# Altium schematic symbol library IC.SchLib: 77 symbols (part 2 of 3)
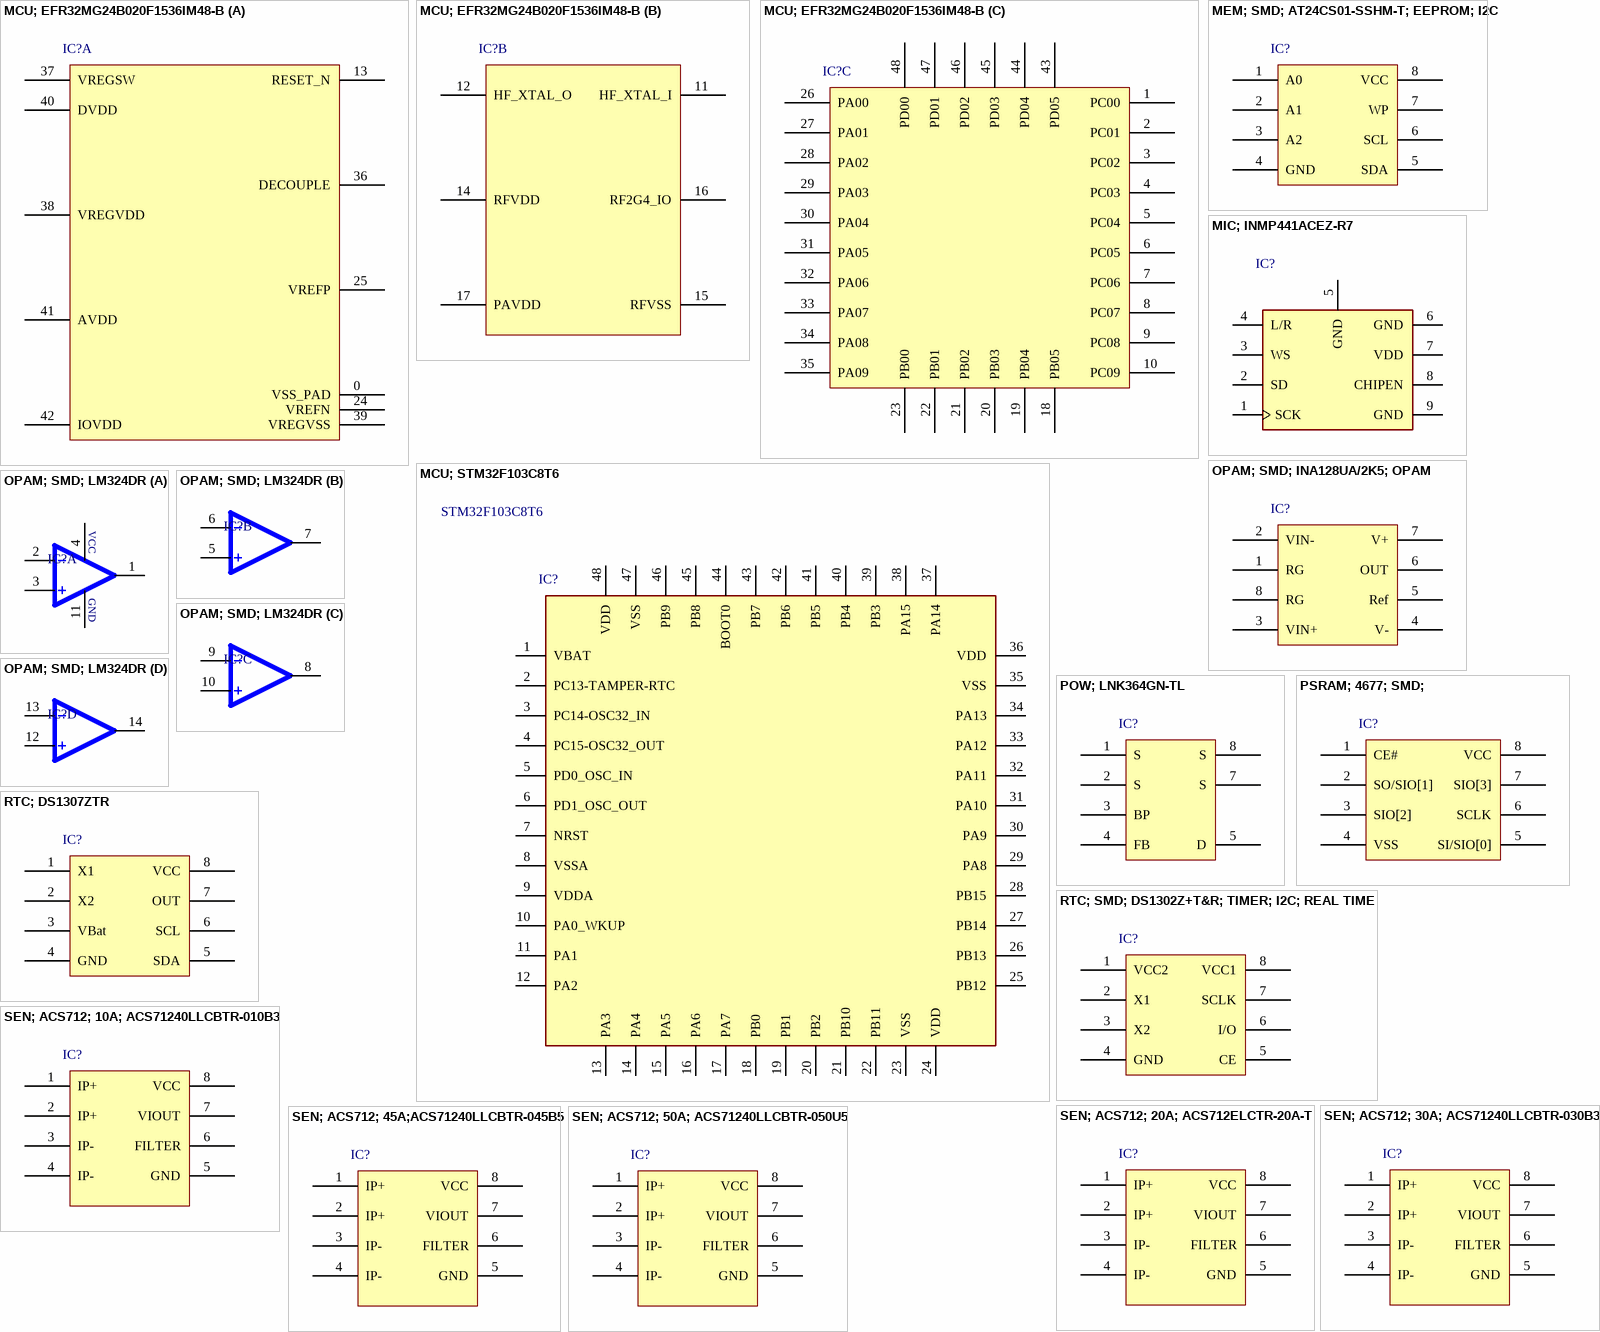
[diagram p5: symbols MCU; EFR32MG24B020F1536IM48-B to SEN; ACS712; 50A; ACS71240LLCBTR-050U5]

## MEM; SMD; AT24CS01-SSHM-T; EEPROM; I2C
designator IC?, comment EEPROM Memory IC 1Kbit I2C 1 MHz 550 ns 8-SOIC  (value not drawn)
EEPROM Serial-I2C 1K-bit 128 x 8 1.8V/2.5V/3.3V/5V 8-Pin SOIC T/R; Manufacturer: Microchip; Manufacturer Part Number: AT24CS01-SSHM-T; Interface: I2C,Serial; Access Time: 550ns; Frequency: 1MHz; Max Supply Voltage: 5.5V; Min Supply Voltage: 1.7V; Memory Format: Non-Volatile,EEPROM; Memory Size: 1Kb; Access Time-Max: 0.6us; Designer: TVBac; Supplier: Digikey; Supplier Part Number: AT24CS01-SSHM-TCT-ND; RoHS: Yes; Stock: 23226; Pricing: 1=0.25, 25=0.2368, 100=0.2266 (USD); Mounting Technology: Surface Mount; Case/Package: SOIC; Pins: 8; Min Operating Temperature: -40°C; Max Operating Temperature: 85°C; Packaging: Cut Tape; Series: -; Length: 5.05mm; Width: 3.99mm; Height: 1.5mm; RoHS Compliant: Yes; ComponentLink1URL: http://uk.rs-online.com/webdocs/1300/0900766b813005b9.pdf?src-supplier=Rs; ComponentLink1Description: http://uk.rs-online.com/webdocs/1300/0900766b813005b9.pdf?src-supplier=Rs; ComponentLink2URL: https://datasheet.octopart.com/AT24CS01-SSHM-T-Microchip-datasheet-76771459.pdf?src-supplier=Farnell; ComponentLink2Description: https://datasheet.octopart.com/AT24CS01-SSHM-T-Microchip-datasheet-76771459.pdf?src-supplier=Farnell; ComponentLink3URL: https://datasheet.octopart.com/AT24CS01-SSHM-T-Microchip-datasheet-62039783.pdf?src-supplier=Future+Electronics; ComponentLink3Description: https://datasheet.octopart.com/AT24CS01-SSHM-T-Microchip-datasheet-62039783.pdf?src-supplier=Future+Electronics; ComponentLink4URL: https://datasheet.octopart.com/AT24CS01-SSHM-T-Microchip-datasheet-141907842.pdf?src-supplier=Newark; ComponentLink4Description: https://datasheet.octopart.com/AT24CS01-SSHM-T-Microchip-datasheet-141907842.pdf?src-supplier=Newark; ComponentLink5URL: https://datasheet.octopart.com/AT24CS01-SSHM-T-Microchip-datasheet-17898956.pdf?src-supplier=SHENGYU+ELECTRONICS; ComponentLink5Description: https://datasheet.octopart.com/AT24CS01-SSHM-T-Microchip-datasheet-17898956.pdf?src-supplier=SHENGYU+ELECTRONICS; ComponentLink6URL: https://datasheet.octopart.com/AT24CS01-SSHM-T-Microchip-datasheet-141907842.pdf?src-supplier=microchipDIRECT; ComponentLink6Description: https://datasheet.octopart.com/AT24CS01-SSHM-T-Microchip-datasheet-141907842.pdf?src-supplier=microchipDIRECT; ComponentLink7Description: Link Digikey; ComponentLink7URL: https://www.digikey.kr/en/products/detail/microchip-technology/AT24CS01-SSHM-T/3466374
footprint SOIC-8
pins: 1 A0, 2 A1, 3 A2, 4 GND, 5 SDA, 6 SCL, 7 WP, 8 VCC

## MIC; INMP441ACEZ-R7
designator IC?, comment 60 Hz ~ 15 kHz Digital, I2S Microphone MEMS (Silicon) 1.62 V ~ 3.63 V Omnidirectional (-26dB ±3dB @ 94dB SPL) Solder Pads  (value not drawn)
60Hz ~ 15kHz Digital, IÂ²S Microphone MEMS (Silicon) 1.62V ~ 3.63V Omnidirectional (-26dB Â±3dB @ 94dB SPL) Solder Pads; MP: INMP441ACEZ-R7; MF: TDK InvenSense; Designer: TVBac; Package: QFN-24 InvenSense; SnapEDA_Link: https://www.snapeda.com/parts/INMP441ACEZ-R7/TDK%20InvenSense/view-part/76082/?ref=snap; Availability: Bad; Price: None; Value: *
footprint MIC-SMD-HxLxW-1.05x4.72x3.76-TDKIS-SNAP
pins: 1 SCK, 2 SD, 3 WS, 4 L/R, 5 GND, 6 GND, 7 VDD, 8 CHIPEN, 9 GND

## OPAM; SMD; INA128UA/2K5; OPAM
designator IC?, comment Instrumentation Amplifier 1 Circuit 8-SOIC  (value not drawn)
Instrumentation Amplifier 1 Circuit  8-SOIC; Manufacturer: Texas Instruments; Manufacturer Part Number: INA128UA/2K5; Slew Rate: 4V/µs; Min Dual Supply Voltage: 2.25V; Max Dual Supply Voltage: 18V; Dual Supply Voltage: 15V; Common Mode Rejection Ratio: 110dB; Number of Channels: 1; Max Supply Voltage: 36V; Min Supply Voltage: 4.5V; Gain Bandwidth Product: 1.3MHz; Input Offset Voltage (Vos): 125uV; Input Bias Current: 10nA; Input Voltage Noise Density: 8nV/sqrt Hz; Number of Elements: 3; Voltage Gain: 80dB; Input Resistance: 100GR; Quiescent Current: 700uA; Supply Current: 750uA; Value: 100GR; Designer: TVBac; Supplier: Digikey; Supplier Part Number: 296-26057-1-ND; RoHS: Yes; Category: Amplifiers - Op Amps, Buffer, Instrumentation; Stock: 4493; Pricing: 1=9.07, 10=6.804, 25=6.2376, 100=5.6154, 250=5.3186, 500=5.1396, 1000=4.9923 (USD); Case/Package: D; Pins: 8; Weight: 0.002677oz; Min Operating Temperature: -40°C; Max Operating Temperature: 125°C; Packaging: Tape and Reel; Package Quantity: 2500; Number of Circuits: 1; Number of Amplifiers: 3; Bandwidth: 1.3MHz; Series: INA128; Length: 4.9mm; Width: 3.91mm; Height: 1.75mm; Thickness: 1.58mm; Reach SVHC Compliant: No; Lead Free: Lead Free; RoHS Compliant: Yes; ComponentLink1URL: https://datasheet.ciiva.com/1816/ina128-1816756.pdf?src-supplier=Digikey; ComponentLink1Description: https://datasheet.ciiva.com/1816/ina128-1816756.pdf?src-supplier=Digikey; ComponentLink2URL: https://datasheet.ciiva.com/1816/ina128-1816757.pdf?src-supplier=Digikey; ComponentLink2Description: https://datasheet.ciiva.com/1816/ina128-1816757.pdf?src-supplier=Digikey; ComponentLink3URL: https://datasheet.ciiva.com/1816/ina128-1816758.pdf?src-supplier=Digikey; ComponentLink3Description: https://datasheet.ciiva.com/1816/ina128-1816758.pdf?src-supplier=Digikey; ComponentLink4URL: https://datasheet.ciiva.com/2977/ina129-2977787.pdf?src-supplier=Avnet; ComponentLink4Description: https://datasheet.ciiva.com/2977/ina129-2977787.pdf?src-supplier=Avnet; ComponentLink5Description: Link Digikey; ComponentLink5URL: https://www.digikey.kr/en/products/detail/texas-instruments/INA128UA-2K5/300998
footprint SOIC-8
pins: 1 RG, 2 VIN-, 3 VIN+, 4 V-, 5 Ref, 6 OUT, 7 V+, 8 RG

## OPAM; SMD; LM324DR
designator IC?, comment General Purpose Amplifier 4 Circuit 14-SOIC  (value not drawn)
Quad 30-V 1.2-MHz operational amplifier 14-SOIC 0 to 70; Manufacturer: Texas Instruments; Manufacturer Part Number: LM324DR; Common Mode Rejection Ratio: 65dB; Number of Channels: 4; Output Current: 30mA; Max Supply Voltage: 32V; Min Supply Voltage: 3V; Slew Rate: 0.5V/µs; Min Dual Supply Voltage: 1.5V; Max Dual Supply Voltage: 16V; Voltage Gain: 100dB; Unity Gain Bandwidth Product: 1.2MHz; Input Offset Voltage (Vos): 7mV; Input Bias Current: 250nA; Operating Supply Current: 1.4mA; Output Current per Channel: 40mA; Supply Current: 3mA; Designer: TVBac; Supplier: Digikey; Supplier Part Number: 296-14597-1-ND; RoHS: Yes; Category: Amplifiers - Op Amps, Buffer, Instrumentation; Stock: 58799; Pricing: 1=0.23, 10=0.152, 25=0.132, 100=0.1105, 250=0.10008, 500=0.09382, 1000=0.08867, 2500=0.08322, 5000=0.07994, 7500=0.0783, 12500=0.07647, 17500=0.07541, 25000=0.07438, 62500=0.07218, 125000=0.07085 (USD); Mounting Technology: Surface Mount; Case/Package: SOIC; Pins: 14; Min Operating Temperature: 0°C; Max Operating Temperature: 70°C; Package Quantity: 2500; Packaging: Tape and Reel; Bandwidth: 1.2MHz; Operating Supply Voltage: 16V; Gain Bandwidth Product: 1.2MHz; Number of Circuits: 4; Number of Amplifiers: 4; Number of Elements: 4; Series: -; Amplifier Type: GENERAL PURPOSE; Technology: BIPOLAR; Thickness: 1.58mm; Radiation Hardening: No; Reach SVHC Compliant: No; Lead Free: Lead Free; RoHS Compliant: Yes; ComponentLink1URL: https://datasheet.ciiva.com/34301/902590-34301708.pdf?src-supplier=Jameco; ComponentLink1Description: https://datasheet.ciiva.com/34301/902590-34301708.pdf?src-supplier=Jameco; ComponentLink2URL: https://datasheet.ciiva.com/1795/lm224-1795532.pdf?src-supplier=Digikey; ComponentLink2Description: https://datasheet.ciiva.com/1795/lm224-1795532.pdf?src-supplier=Digikey; ComponentLink3URL: https://datasheet.ciiva.com/1795/lm224-1795533.pdf?src-supplier=Digikey; ComponentLink3Description: https://datasheet.ciiva.com/1795/lm224-1795533.pdf?src-supplier=Digikey; ComponentLink4URL: https://datasheet.ciiva.com/1795/lm224-1795534.pdf?src-supplier=Digikey; ComponentLink4Description: https://datasheet.ciiva.com/1795/lm224-1795534.pdf?src-supplier=Digikey; ComponentLink5URL: https://datasheet.ciiva.com/5997/1768103-5997421.pdf?src-supplier=Farnell; ComponentLink5Description: https://datasheet.ciiva.com/5997/1768103-5997421.pdf?src-supplier=Farnell; ComponentLink6URL: https://datasheet.ciiva.com/2973/lm324ka-2973348.pdf?src-supplier=Avnet; ComponentLink6Description: https://datasheet.ciiva.com/2973/lm324ka-2973348.pdf?src-supplier=Avnet; ComponentLink7URL: https://datasheet.ciiva.com/7709/1840878-7709814.pdf?src-supplier=Element14; ComponentLink7Description: https://datasheet.ciiva.com/7709/1840878-7709814.pdf?src-supplier=Element14; ComponentLink8URL: https://datasheet.ciiva.com/46385/1877076-46385751.pdf?src-supplier=Element14; ComponentLink8Description: https://datasheet.ciiva.com/46385/1877076-46385751.pdf?src-supplier=Element14; ComponentLink9Description: Link Digikey; ComponentLink9URL: https://www.digikey.kr/en/products/detail/texas-instruments/LM324DR/555719
footprint SOIC-14
part A pins: 1 1OUT, 2 1IN-, 3 1IN+, 4 VCC (power), 11 GND (power)
part B pins: 5 2IN+, 6 2IN-, 7 2OUT
part C pins: 8 3OUT, 9 3IN-, 10 3IN+
part D pins: 12 4IN+, 13 4IN-, 14 4OUT

## POW; LNK364GN-TL
designator IC?, comment Converter Offline Flyback Topology 132kHz SMD-8B  (value not drawn)
AC to DC Switching Converter Off-Line Switcher 140kHz 7-Pin SMD-B / IC OFFLINE SWIT HV 8SMD; Manufacturer: Power Integrations; Manufacturer Part Number: LNK364GN-TL; Designer: TVBac; Supplier: Digikey; Supplier Part Number: 596-1089-1-ND; RoHS: Yes; Category: Voltage Regulators - Switching; Stock: 726; Pricing: 1=0.87, 100=0.7168 (USD); ComponentLink1URL: https://datasheet.ciiva.com/1930/lnk362-364-1930587.pdf?src-supplier=Digikey; ComponentLink1Description: https://datasheet.ciiva.com/1930/lnk362-364-1930587.pdf?src-supplier=Digikey; ComponentLink2URL: https://datasheet.ciiva.com/1930/lnk362-364-1930588.pdf?src-supplier=Digikey; ComponentLink2Description: https://datasheet.ciiva.com/1930/lnk362-364-1930588.pdf?src-supplier=Digikey; ComponentLink3URL: https://datasheet.ciiva.com/1930/lnk362-364-1930589.pdf?src-supplier=Digikey; ComponentLink3Description: https://datasheet.ciiva.com/1930/lnk362-364-1930589.pdf?src-supplier=Digikey; ComponentLink4URL: https://datasheet.ciiva.com/12230/lnk362-364-3310-12230262.pdf?src-supplier=Mouser; ComponentLink4Description: https://datasheet.ciiva.com/12230/lnk362-364-3310-12230262.pdf?src-supplier=Mouser; ComponentLink5Description: Link Digikey; ComponentLink5URL: https://www.digikey.com/en/products/detail/power-integrations/LNK364GN-TL/1007182
footprint SMD-8B-PI
pins: 1 S, 2 S, 3 BP, 4 FB, 5 D, 7 S, 8 S

## PSRAM; 4677; SMD;
designator IC?, comment IC PSRAM 64MBIT SPI 133MHZ 8SOIC  (value not drawn)
Generic 64 Mbit Serial Pseudo SRAM - 3.3V 133 MHz; Manufacturer: Adafruit Industries; Manufacturer Part Number: 4677; Designer: TVBac; Supplier: Digikey; Supplier Part Number: 1528-4677-ND; RoHS: No; Category: Memory; Stock: 431; Pricing: 1=1.8 (USD); ComponentLink1Description: Link Datasheet; ComponentLink1URL: https://cdn-shop.adafruit.com/product-files/4677/4677_esp-psram64_esp-psram64h_datasheet_en.pdf; ComponentLink2Description: Link Digikey; ComponentLink2URL: https://www.digikey.kr/en/products/detail/adafruit-industries-llc/4677/13148775?s=N4IgTCBcDaIKIGUAKBaJCBKBBAsgNgBYQBdAXyA
footprint SOP-8
pins: 1 CE#, 2 SO/SIO[1] , 3 SIO[2], 4 VSS, 5 SI/SIO[0], 6 SCLK, 7 SIO[3], 8 VCC

## RTC; DS1307ZTR
designator IC?, comment Real Time Clock (RTC) IC Clock/Calendar 56B I2C, 2-Wire Serial 8-SOIC (0.154", 3.90mm Width)  (value not drawn)
Real Time Clock 64x8 Serial I2C RTC; Manufacturer: Maxim; Manufacturer Part Number: DS1307ZTR; Designer: TVBac; Supplier: Newark; Supplier Part Number: 38AC0917; RoHS: Yes; Stock: 1830; Pricing: 1=6.14, 10=4.05, 25=3.5, 50=3.2, 100=2.89, 250=2.58, 500=2.4, 1000=2.36 (USD); ComponentLink1URL: https://datasheet.ciiva.com/22828/0900766b810e2680-22828066.pdf?src-supplier=Rs; ComponentLink1Description: https://datasheet.ciiva.com/22828/0900766b810e2680-22828066.pdf?src-supplier=Rs; ComponentLink2URL: https://datasheet.ciiva.com/3304/ds1307-3304458.pdf?src-supplier=Avnet; ComponentLink2Description: https://datasheet.ciiva.com/3304/ds1307-3304458.pdf?src-supplier=Avnet; ComponentLink3URL: https://datasheet.ciiva.com/17307/ds1307-17307070.pdf?; ComponentLink3Description: https://datasheet.ciiva.com/17307/ds1307-17307070.pdf?
footprint SOIC-8
pins: 1 X1, 2 X2, 3 VBat, 4 GND, 5 SDA, 6 SCL, 7 OUT, 8 VCC

## RTC; SMD; DS1302Z+T&R; TIMER; I2C; REAL TIME
designator IC?, comment Real Time Clock (RTC) IC Clock/Calendar 31B 3-Wire Serial 8-SOIC (0.154", 3.90mm Width)  (value not drawn)
RTC IC, Date Time Format (Day/Date/Month/Year hh: mm: ss), Serial, 2 V to 5.5 V, NSOIC-8; Manufacturer: Maxim; Manufacturer Part Number: DS1302Z+T&R; Time Format: HH:MM:SS (12/24 hr); Interface: Serial,3-WIRE; Min Supply Voltage: 2V; Max Supply Voltage: 5.5V; Date Format: YY-MM-DD-dd; Designer: TVBac; Supplier: Digikey; Supplier Part Number: DS1302Z+CT-ND; RoHS: Yes; Category: Real Time Clocks; Stock: 14010; Pricing: 1=6.44, 10=4.356, 25=3.8168, 100=3.2123, 250=2.919, 500=2.74026, 1000=2.59184 (USD); Mounting Technology: Surface Mount; Case/Package: SOIC; Pins: 8; Min Operating Temperature: 0°C; Max Operating Temperature: 70°C; Packaging: Cut Tape; Series: -; Memory Size: 31B; RoHS Compliant: Yes; ComponentLink1URL: http://www.farnell.com/datasheets/1904443.pdf?src-supplier=Farnell; ComponentLink1Description: http://www.farnell.com/datasheets/1904443.pdf?src-supplier=Farnell; ComponentLink2URL: https://datasheets.maximintegrated.com/en/ds/DS1302.pdf?src-supplier=Digikey; ComponentLink2Description: https://datasheets.maximintegrated.com/en/ds/DS1302.pdf?src-supplier=Digikey; ComponentLink3URL: https://datasheet.octopart.com/DS1302Z%2BT%26R-Analog-Devices-datasheet-39124292.pdf?src-supplier=LKR; ComponentLink3Description: https://datasheet.octopart.com/DS1302Z%2BT%26R-Analog-Devices-datasheet-39124292.pdf?src-supplier=LKR; ComponentLink4Description: Link Digikey; ComponentLink4URL: https://digikey.kr/en/products/detail/analog-devices-inc-maxim-integrated/DS1302Z-T-R/1017846
footprint SOIC-8
pins: 1 VCC2, 2 X1, 3 X2, 4 GND, 5 CE, 6 I/O, 7 SCLK, 8 VCC1

## SEN; ACS712; 10A; ACS71240LLCBTR-010B3
designator IC?, comment Current Sensor 10A 1 Channel Hall Effect, Open Loop Bidirectional 8-SOIC (0.154", 3.90mm Width)  (value not drawn)
Automotive-Grade, Current Sensor IC with CM field rejection and Overcurrent Detection in SOIC8 and 2400VRMS...; Manufacturer: Allegro MicroSystems; Manufacturer Part Number: ACS71240LLCBTR-010B3; Designer: TVBac; Supplier: Digikey; Supplier Part Number: 620-2051-1-ND; RoHS: Yes; Category: Current Sensors; Stock: 7503; Pricing: 1=3.52, 5=2.968, 10=2.758, 25=2.5032, 50=2.326, 100=2.1615, 500=1.82332, 1000=1.6946, 3000=1.50905, 6000=1.40625 (USD); ComponentLink1Description: Link Digikey; ComponentLink1URL: https://www.digikey.com/en/products/detail/allegro-microsystems/ACS71240LLCBTR-010B3/10146663
footprint SOIC-8
pins: 1 IP+, 2 IP+, 3 IP-, 4 IP-, 5 GND, 6 FILTER, 7 VIOUT, 8 VCC

## SEN; ACS712; 20A; ACS712ELCTR-20A-T
designator IC?, comment Current Sensor 20A 1 Channel Hall Effect, Open Loop Bidirectional 8-SOIC (0.154", 3.90mm Width)  (value not drawn)
Allegro ACS712ELCTR-20A-T / Sensor Current 20A 5V Bi 8-SOICALLE; Manufacturer: Allegro MicroSystems; Sensing Method: 6244SensingMethod; Operating Supply Current: 10mA; Designer: TVBac; Supplier: Digikey; Supplier Part Number: 620-1190-1-ND; Manufacturer Part Number: ACS712ELCTR-20A-T; RoHS: Yes; Category: Current Sensors; Stock: 27093; Pricing: 1=3.79, 5=3.194, 10=2.968, 25=2.6936, 50=2.5032, 100=2.3262, 500=1.96228, 1000=1.82376, 3000=1.62409, 6000=1.5625 (USD); Lead Free: 5697LeadFree; ComponentLink1URL: https://datasheet.ciiva.com/15099/getdatasheetpartid-312820-15099471.pdf?src-supplier=Verical; ComponentLink1Description: https://datasheet.ciiva.com/15099/getdatasheetpartid-312820-15099471.pdf?src-supplier=Verical; ComponentLink2URL: https://datasheet.ciiva.com/1165/64754-1165093.pdf?src-supplier=Element14; ComponentLink2Description: https://datasheet.ciiva.com/1165/64754-1165093.pdf?src-supplier=Element14; ComponentLink3URL: https://datasheet.ciiva.com/3271/acs712-datasheet-3271995.pdf?src-supplier=Avnet; ComponentLink3Description: https://datasheet.ciiva.com/3271/acs712-datasheet-3271995.pdf?src-supplier=Avnet; ComponentLink4URL: https://datasheet.ciiva.com/3272/acs712-datasheet-3272423.pdf?src-supplier=Avnet; ComponentLink4Description: https://datasheet.ciiva.com/3272/acs712-datasheet-3272423.pdf?src-supplier=Avnet; ComponentLink5URL: https://datasheet.ciiva.com/16636/acs712-datasheet-16636599.pdf?; ComponentLink5Description: https://datasheet.ciiva.com/16636/acs712-datasheet-16636599.pdf?; ComponentLink6Description: Link Digikey; ComponentLink6URL: https://www.digikey.com/en/products/detail/allegro-microsystems/ACS712ELCTR-20A-T/1284594
footprint SOIC-8
pins: 1 IP+, 2 IP+, 3 IP-, 4 IP-, 5 GND, 6 FILTER, 7 VIOUT, 8 VCC

## SEN; ACS712; 30A; ACS71240LLCBTR-030B3
designator IC?, comment Current Sensor 30A 1 Channel Hall Effect, Open Loop Bidirectional 8-SOIC (0.154", 3.90mm Width)  (value not drawn)
Automotive-Grade, Current Sensor IC with CM field rejection and Overcurrent Detection in SOIC8 and 2400VRMS...; Manufacturer: Allegro MicroSystems; Manufacturer Part Number: ACS71240LLCBTR-030B3; Designer: TVBac; Supplier: Digikey; Supplier Part Number: 620-2052-1-ND; RoHS: Yes; Category: Current Sensors; Stock: 5721; Pricing: 1=3.52, 5=2.968, 10=2.758, 25=2.5032, 50=2.326, 100=2.1615, 500=1.82332, 1000=1.6946, 3000=1.50905, 6000=1.40625 (USD); ComponentLink1Description: Link Digikey; ComponentLink1URL: https://www.digikey.com/en/products/detail/allegro-microsystems/ACS71240LLCBTR-030B3/10146664
footprint SOIC-8
pins: 1 IP+, 2 IP+, 3 IP-, 4 IP-, 5 GND, 6 FILTER, 7 VIOUT, 8 VCC

## SEN; ACS712; 45A;ACS71240LLCBTR-045B5
designator IC?, comment Current Sensor 45A 1 Channel Hall Effect, Open Loop Bidirectional 8-SOIC (0.154", 3.90mm Width)  (value not drawn)
Automotive-Grade, Current Sensor IC with CM field rejection and Overcurrent Detection in SOIC8 and 2400VRMS...; Manufacturer: Allegro MicroSystems; Manufacturer Part Number: ACS71240LLCBTR-045B5; Designer: TVBac; Supplier: Digikey; Supplier Part Number: 620-2053-1-ND; RoHS: Yes; Category: Current Sensors; Stock: 930; Pricing: 1=3.52, 5=2.968, 10=2.758, 25=2.5032, 50=2.326, 100=2.1615, 500=1.82332, 1000=1.6946, 3000=1.50905, 6000=1.40625 (USD); ComponentLink1Description: Link Digikey; ComponentLink1URL: https://www.digikey.com/en/products/detail/allegro-microsystems/ACS71240LLCBTR-045B5/10146665
footprint SOIC-8
pins: 1 IP+, 2 IP+, 3 IP-, 4 IP-, 5 GND, 6 FILTER, 7 VIOUT, 8 VCC

## SEN; ACS712; 50A; ACS71240LLCBTR-050U5
designator IC?, comment Current Sensor 50A 1 Channel Hall Effect, Open Loop Unidirectional 8-SOIC (0.154", 3.90mm Width)  (value not drawn)
Current Sensor 50A 120kHz 8-Pin SOIC T/R; Manufacturer: Allegro MicroSystems; Manufacturer Part Number: ACS71240LLCBTR-050U5; Designer: TVBac; Supplier: Digikey; Supplier Part Number: 620-2054-1-ND; RoHS: Yes; Category: Current Sensors; Stock: 4103; Pricing: 1=4.19, 5=3.536, 10=3.285, 25=2.9808, 50=2.77, 100=2.5741, 500=2.1715, 1000=2.01822, 3000=1.79726 (USD)
footprint SOIC-8
pins: 1 IP+, 2 IP+, 3 IP-, 4 IP-, 5 GND, 6 FILTER, 7 VIOUT, 8 VCC

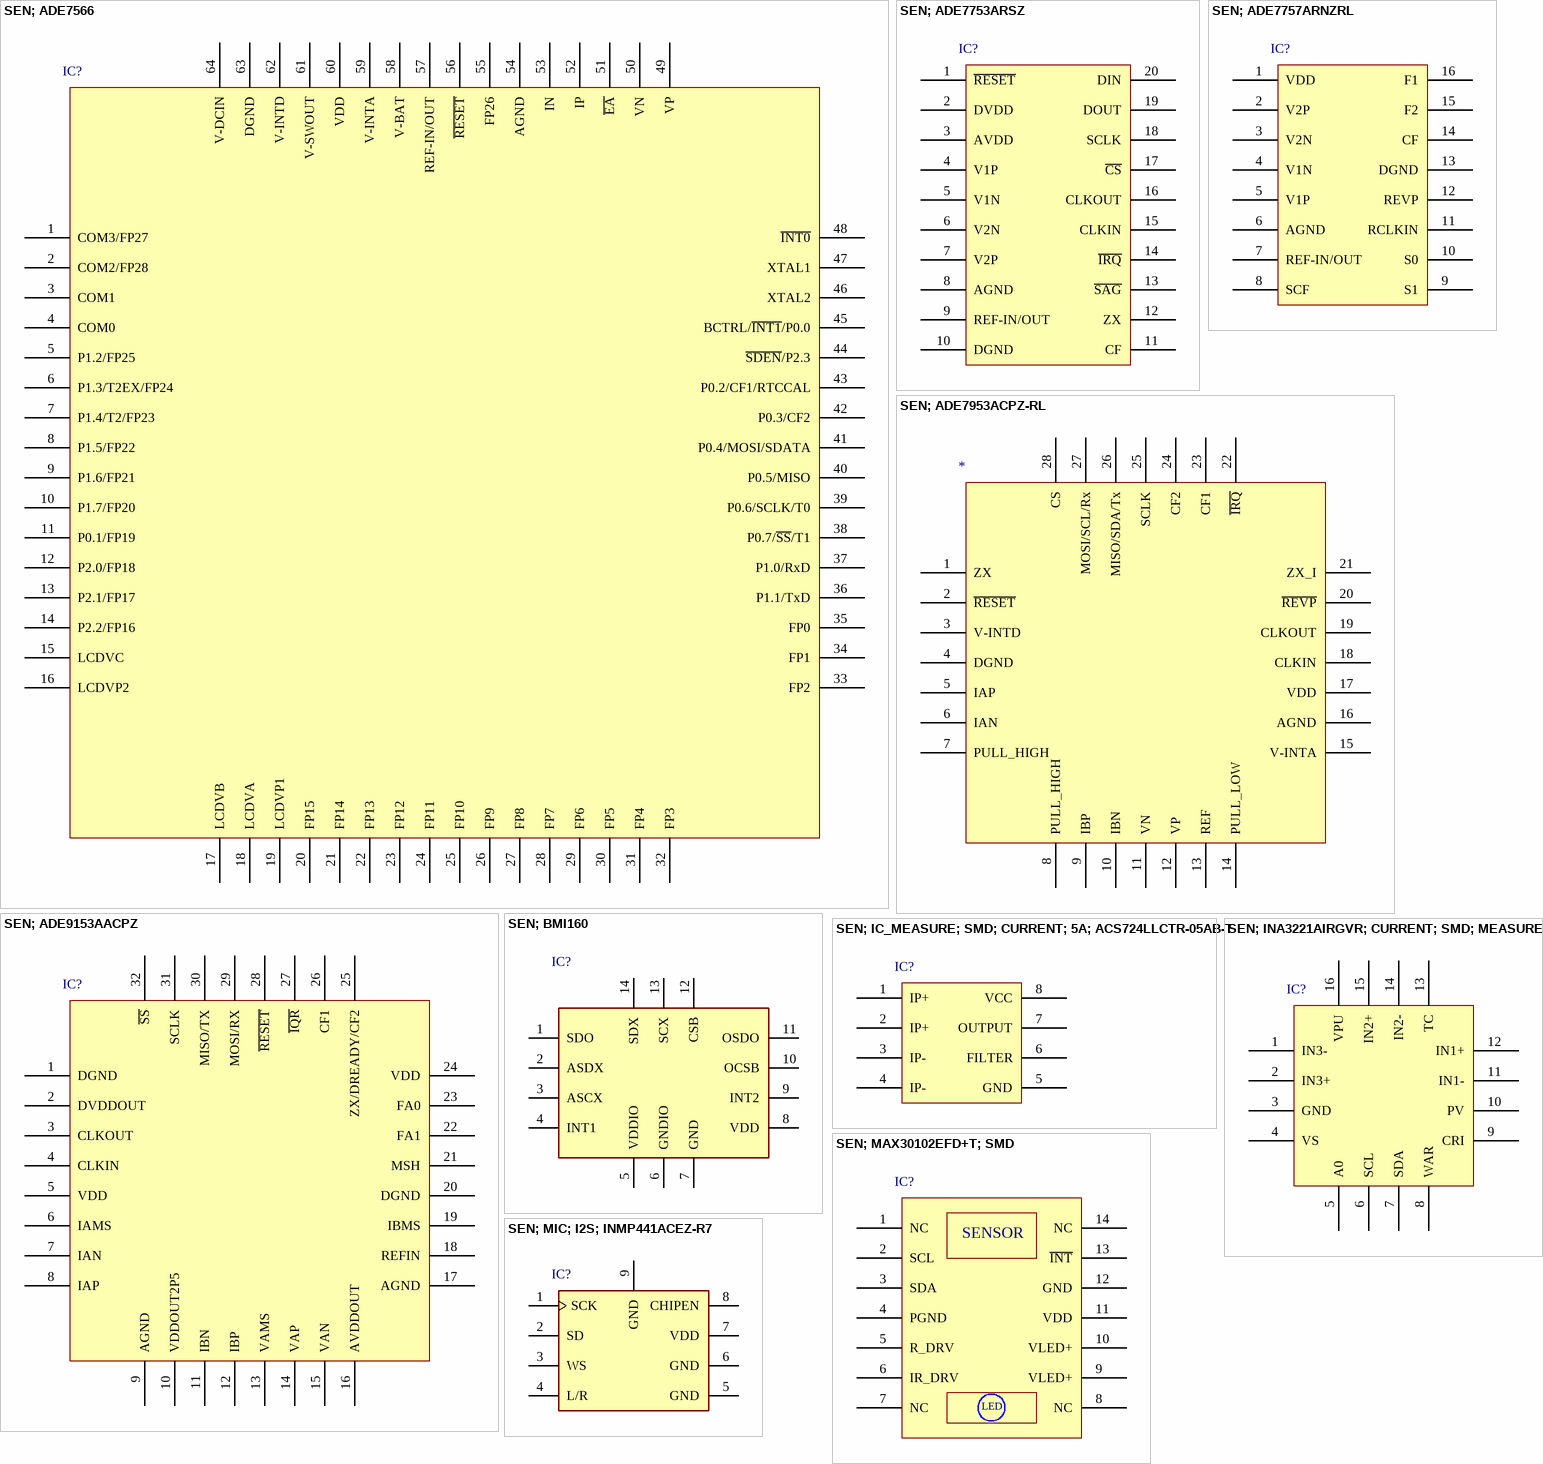
[diagram p3: symbols SEN; ADE7566 to SEN; MIC; I2S; INMP441ACEZ-R7]

## SEN; ADE7566
designator IC?, comment Single Phase Meter IC 64-LQFP (10x10)  (value not drawn)
Single-Phase Energy Measurement IC with 8052 MCU, RTC, and LCD Driver; Symbol: ADE7566ASTZF16-RL; Designer: TVBac; Device: ADE7566ASTZF16-RL; LCSC Part Name: ADE7566ASTZF16-RL; Supplier Part: C3681686; Manufacturer Part: ADE7566ASTZF16-RL; JLCPCB Part Class: Extended Part; Datasheet: https://atta.szlcsc.com/upload/public/pdf/source/20231009/C191B7318F689645FB1E4379B5E0C61A.pdf; ComponentLink1Description: Link Digikey; ComponentLink1URL: https://www.digikey.com/en/products/detail/analog-devices-inc/ADE7566ASTZF8/1762659
footprint LQFP-64 (10x10)
pins: 1 COM3/FP27, 2 COM2/FP28, 3 COM1, 4 COM0, 5 P1.2/FP25, 6 P1.3/T2EX/FP24, 7 P1.4/T2/FP23, 8 P1.5/FP22, 9 P1.6/FP21, 10 P1.7/FP20, 11 P0.1/FP19, 12 P2.0/FP18, 13 P2.1/FP17, 14 P2.2/FP16 , 15 LCDVC, 16 LCDVP2, 17 LCDVB , 18 LCDVA, 19 LCDVP1, 20 FP15, 21 FP14, 22 FP13, 23 FP12, 24 FP11, 25 FP10, 26 FP9, 27 FP8, 28 FP7, 29 FP6, 30 FP5, 31 FP4, 32 FP3, 33 FP2, 34 FP1, 35 FP0, 36 P1.1/TxD, 37 P1.0/RxD, 38 P0.7/~{SS}/T1, 39 P0.6/SCLK/T0, 40 P0.5/MISO, 41 P0.4/MOSI/SDATA, 42 P0.3/CF2, 43 P0.2/CF1/RTCCAL, 44 ~{SDEN}/P2.3, 45 BCTRL/~{INT1}/P0.0, 46 XTAL2, 47 XTAL1, 48 ~{INT0}, 49 VP, 50 VN, 51 ~{EA}, 52 IP, 53 IN, 54 AGND, 55 FP26, 56 ~{RESET}, 57 REF-IN/OUT, 58 V-BAT, 59 V-INTA, 60 VDD, 61 V-SWOUT, 62 V-INTD, 63 DGND, 64 V-DCIN

## SEN; ADE7753ARSZ
designator IC?, comment Single Phase Meter IC 20-SSOP  (value not drawn)
Single Phase Multifunction Metering IC 20-Pin SSOP Tube; Manufacturer: Analog Devices; Manufacturer Part Number: ADE7753ARSZ; Designer: TVBac; Supplier: Mouser; Supplier Part Number: 584-ADE7753ARSZ; RoHS: Yes; Category: Analog to Digital Converters (ADCs); Stock: 239; Pricing: 1=7.3, 10=5.71, 50=5.04, 100=3.91, 1000=3.51, 10000=3.37 (USD); ComponentLink1URL: https://datasheet.ciiva.com/15373/ade7753-249340-15373717.pdf?src-supplier=Mouser; ComponentLink1Description: https://datasheet.ciiva.com/15373/ade7753-249340-15373717.pdf?src-supplier=Mouser; ComponentLink2URL: https://datasheet.ciiva.com/1166/1610806-1166771.pdf?src-supplier=Element14; ComponentLink2Description: https://datasheet.ciiva.com/1166/1610806-1166771.pdf?src-supplier=Element14; ComponentLink3URL: https://datasheet.ciiva.com/15134/getdatasheetpartid-132040-15134272.pdf?src-supplier=Verical; ComponentLink3Description: https://datasheet.ciiva.com/15134/getdatasheetpartid-132040-15134272.pdf?src-supplier=Verical; ComponentLink4URL: https://datasheet.ciiva.com/1941/ade7753-1941429.pdf?src-supplier=Digikey; ComponentLink4Description: https://datasheet.ciiva.com/1941/ade7753-1941429.pdf?src-supplier=Digikey; ComponentLink5URL: https://datasheet.ciiva.com/22621/1610806-22621637.pdf?src-supplier=Element14; ComponentLink5Description: https://datasheet.ciiva.com/22621/1610806-22621637.pdf?src-supplier=Element14; ComponentLink6URL: https://datasheet.ciiva.com/3148/ade7753-3148700.pdf?src-supplier=Avnet; ComponentLink6Description: https://datasheet.ciiva.com/3148/ade7753-3148700.pdf?src-supplier=Avnet; ComponentLink7URL: https://datasheet.ciiva.com/1168/1610806-1168083.pdf?src-supplier=Element14; ComponentLink7Description: https://datasheet.ciiva.com/1168/1610806-1168083.pdf?src-supplier=Element14; ComponentLink8URL: https://datasheet.ciiva.com/5697/ade7753-5697029.pdf?src-supplier=Farnell; ComponentLink8Description: https://datasheet.ciiva.com/5697/ade7753-5697029.pdf?src-supplier=Farnell; ComponentLink9URL: https://datasheet.ciiva.com/48694/001249930-da-01-en-ic-energy-meteri-ade7753arsz-ssop-20-adi-48694326.pdf?src-supplier=Conrad; ComponentLink9Description: https://datasheet.ciiva.com/48694/001249930-da-01-en-ic-energy-meteri-ade7753arsz-ssop-20-adi-48694326.pdf?src-supplier=Conrad; ComponentLink10Description: Link Digikey; ComponentLink10URL: https://www.digikey.com/en/products/detail/analog-devices-inc/ADE7753ARSZ/671181
footprint SSOP-20-ADI
pins: 1 ~{RESET}, 2 DVDD, 3 AVDD, 4 V1P, 5 V1N, 6 V2N, 7 V2P, 8 AGND, 9 REF-IN/OUT, 10 DGND, 11 CF, 12 ZX, 13 ~{SAG}, 14 ~{IRQ}, 15 CLKIN, 16 CLKOUT, 17 ~{CS}, 18 SCLK, 19 DOUT, 20 DIN

## SEN; ADE7757ARNZRL
designator IC?, comment Single Phase Meter IC 16-SOIC  (value not drawn)
Energy Metering IC 16-Pin SOIC N T/R; Manufacturer: Analog Devices; Manufacturer Part Number: ADE7757ARNZRL; Power Consumption: 20mW; Operating Supply Current: 4mA; Input Impedance: 320kR; Designer: TVBac; Supplier: Mouser; Supplier Part Number: 584-ADE7757ARNZR; RoHS: Yes; Category: Integrated Circuits (ICs); Stock: 5495; Pricing: 1=4.6, 10=3.48, 50=3.48, 100=2.92, 1000=2.34, 10000=2.14 (USD); Mounting Technology: Surface Mount; Case/Package: SOIC; Pins: 16; Contact Plating: Tin,Matte; Min Operating Temperature: -40°C; Max Operating Temperature: 85°C; Packaging: Tape and Reel; Package Quantity: 2500; Series: -; Lead Free: Contains Lead; RoHS Compliant: Yes; ComponentLink1URL: https://datasheet.ciiva.com/1941/ade7757-1941500.pdf?src-supplier=Digikey; ComponentLink1Description: https://datasheet.ciiva.com/1941/ade7757-1941500.pdf?src-supplier=Digikey; ComponentLink2Description: Link Digikey; ComponentLink2URL: https://www.digikey.com/en/products/detail/analog-devices-inc/ADE7757ARNZRL/994010
footprint SOIC-16
pins: 1 VDD, 2 V2P, 3 V2N, 4 V1N, 5 V1P, 6 AGND, 7 REF-IN/OUT, 8 SCF, 9 S1, 10 S0, 11 RCLKIN, 12 REVP, 13 DGND, 14 CF, 15 F2, 16 F1

## SEN; ADE7953ACPZ-RL
designator *  (value not drawn)
IC ENERGY METERING 1PH 28LFCSP; Manufacturer: Analog Devices; Manufacturer Part Number: ADE7953ACPZ-RL; Designer: TVBac; Supplier: Mouser; Supplier Part Number: 584-ADE7953ACPZ-R; RoHS: Yes; Category: Analog to Digital Converters (ADCs); Stock: 49088; Pricing: 1=4.91, 10=3.83, 50=3.83, 100=3.23, 1000=2.6, 10000=2.37 (USD); ComponentLink1URL: https://datasheet.ciiva.com/46633/ade7953-46633503.pdf?src-supplier=Digikey; ComponentLink1Description: https://datasheet.ciiva.com/46633/ade7953-46633503.pdf?src-supplier=Digikey
footprint LFCSP-WQ-28-ADI (5x5)
pins: 1 ZX, 2 ~{RESET}, 3 V-INTD, 4 DGND, 5 IAP, 6 IAN, 7 PULL_HIGH, 8 PULL_HIGH, 9 IBP, 10 IBN, 11 VN, 12 VP, 13 REF, 14 PULL_LOW, 15 V-INTA, 16 AGND, 17 VDD, 18 CLKIN, 19 CLKOUT, 20 ~{REVP}, 21 ZX_I, 22 ~{IRQ}, 23 CF1, 24 CF2, 25 SCLK, 26 MISO/SDA/Tx, 27 MOSI/SCL/Rx, 28 CS

## SEN; ADE9153AACPZ
designator IC?, comment Single Phase Meter IC 32-LFCSP (5x5)  (value not drawn)
Data Acquisition ADCs/DACs - Specialized 1 PH Mtr IC w/ Auto Calibration; Manufacturer: Analog Devices; Manufacturer Part Number: ADE9153AACPZ; Operating Supply Current: 9.3mA; Input Impedance: 256kR; Designer: TVBac; Supplier: Mouser; Supplier Part Number: 584-ADE9153AACPZ; RoHS: Yes; Category: Analog to Digital Converters (ADCs); Stock: 1950; Pricing: 1=8.51, 10=6.76, 50=5.68, 100=5.43, 1000=5.03, 10000=5.03 (USD); Mounting Technology: Surface Mount; Pins: 32; Min Operating Temperature: -40°C; Max Operating Temperature: 85°C; Packaging: Tray; Series: -; RoHS Compliant: Yes; ComponentLink1URL: https://www.analog.com/media/en/technical-documentation/data-sheets/ade9153a.pdf?src-supplier=Digikey; ComponentLink1Description: https://www.analog.com/media/en/technical-documentation/data-sheets/ade9153a.pdf?src-supplier=Digikey; ComponentLink2Description: Link Digikey; ComponentLink2URL: https://www.digikey.com/en/products/detail/analog-devices-inc/ADE9153AACPZ/9485472
footprint LFCSP-32 (5x5)
pins: 1 DGND, 2 DVDDOUT, 3 CLKOUT, 4 CLKIN, 5 VDD, 6 IAMS, 7 IAN, 8 IAP, 9 AGND, 10 VDDOUT2P5, 11 IBN, 12 IBP, 13 VAMS, 14 VAP, 15 VAN, 16 AVDDOUT, 17 AGND, 18 REFIN, 19 IBMS, 20 DGND, 21 MSH, 22 FA1, 23 FA0, 24 VDD, 25 ZX/DREADY/CF2, 26 CF1, 27 ~{IQR}, 28 ~{RESET}, 29 MOSI/RX, 30 MISO/TX, 31 SCLK, 32 ~{SS}

## SEN; BMI160
designator IC?, comment Accelerometer, Gyroscope, 6 Axis Sensor I2C, SPI Output  (value not drawn)
Accelerometer, Gyroscope, 6 Axis Sensor I²C, SPI Output; MP: BMI160; Designer: TVBac; Package: None; Price: None; Availability: Unavailable; Value: *; ComponentLink1Description: Link Digikey; ComponentLink1URL: https://www.digikey.com/en/products/detail/bosch-sensortec/BMI160/6136300
footprint VFLGA-14
pins: 1 SDO, 2 ASDX, 3 ASCX, 4 INT1, 5 VDDIO, 6 GNDIO, 7 GND, 8 VDD, 9 INT2, 10 OCSB, 11 OSDO, 12 CSB, 13 SCX, 14 SDX

## SEN; IC_MEASURE; SMD; CURRENT; 5A; ACS724LLCTR-05AB-T
designator IC?, comment Current Sensor 5A 1 Channel Hall Effect, Open Loop Bidirectional 8-SOIC (0.154", 3.90mm Width)  (value not drawn)
Closed Loop/Open Loop Current Sensor AC/DC Current 5V Automotive 8-Pin SOIC N T/R; Manufacturer: Allegro MicroSystems; Manufacturer Part Number: ACS724LLCTR-05AB-T; Number of Channels: 1; Frequency: 120kHz; Response Time: 4us; Max Supply Current: 14mA; Linearity: 1.5%; Accuracy: 0.6%; Sensitivity: 400mV/A; Max Supply Voltage: 5.5V; Min Supply Voltage: 4.5V; Operating Supply Current: 10mA; Sensing Method: 6244SensingMethod; Designer: TVBac; RoHS: Yes; Category: Current Sensors; Stock: 10738; Pricing: 1=4.29, 5=3.62, 10=3.363, 25=3.052, 50=2.836, 100=2.6356, 500=2.22332, 1000=2.06639, 3000=1.84016 (USD); Mounting Technology: Surface Mount; Case/Package: SOIC; Pins: 8; Min Operating Temperature: -40°C; Max Operating Temperature: 150°C; Packaging: Tape and Reel; Current Sensing: 5A; Series: -; Height: 1.75mm; RoHS Compliant: Yes; ComponentLink1URL: https://www.allegromicro.com/~/media/Files/Datasheets/ACS724-Datasheet.ashx?src-supplier=Digikey; ComponentLink1Description: https://www.allegromicro.com/~/media/Files/Datasheets/ACS724-Datasheet.ashx?src-supplier=Digikey; Supplier: Digikey; ComponentLink2Description: Link Digikey; ComponentLink2URL: https://www.digikey.kr/en/products/detail/allegro-microsystems/ACS724LLCTR-05AB-T/5400755; ComponentLink3Description: Link LCSC; ComponentLink3URL: https://www.lcsc.com/product-detail/Current-Sensors_Allegro-MicroSystems-span-style-background-color-ff0-LLC-span-ACS724LLCTR-05AB-T_C459328.html; Supplier Part Number: 620-ACS724LLCTR-05AB-TCT-ND
footprint SOIC-8
pins: 1 IP+, 2 IP+, 3 IP-, 4 IP-, 5 GND, 6 FILTER, 7 OUTPUT, 8 VCC

## SEN; INA3221AIRGVR; CURRENT; SMD; MEASURE;
designator IC?, comment Current/Voltage Monitor Regulator High-Side 16-VQFN (4x4)  (value not drawn)
Current/Voltage Monitor Regulator High-Side  16-VQFN (4x4); Manufacturer: Texas Instruments; Manufacturer Part Number: INA3221AIRGVR; Min Supply Voltage: 2.7V; Max Supply Voltage: 5.5V; Common Mode Rejection Ratio: 110dB; Number of Channels: 1; Input Offset Voltage (Vos): 80uV; Gain Bandwidth Product: 7kHz; Power Supply Rejection Ratio (PSRR): 96.48dB; Accuracy: 0.25%; Quiescent Current: 350uA; Designer: TVBac; Supplier: Digikey; Supplier Part Number: 296-INA3221AIRGVRCT-ND; RoHS: Yes; Category: Amplifiers - Op Amps, Buffer, Instrumentation; Stock: 5692; Pricing: 1=4.14, 10=3.023, 25=2.7428, 100=2.4345, 250=2.28748, 500=2.19886, 1000=2.12589 (USD); Case/Package: VQFN; Pins: 16; Min Operating Temperature: -40°C; Max Operating Temperature: 125°C; Package Quantity: 2500; Packaging: Tape and Reel; Number of Elements: 1; Series: -; Supply Current: 350uA; Lead Free: Lead Free; RoHS Compliant: Yes; ComponentLink1URL: https://datasheet.ciiva.com/4752/sbos576-126097-4752436.pdf?src-supplier=Mouser; ComponentLink1Description: https://datasheet.ciiva.com/4752/sbos576-126097-4752436.pdf?src-supplier=Mouser; ComponentLink2URL: https://datasheet.ciiva.com/6613/ina3221-6613546.pdf?src-supplier=Digikey; ComponentLink2Description: https://datasheet.ciiva.com/6613/ina3221-6613546.pdf?src-supplier=Digikey; ComponentLink3Description: Link Digikey; ComponentLink3URL: https://www.digikey.kr/en/products/detail/texas-instruments/INA3221AIRGVR/3588826
footprint VQFN-16
pins: 1 IN3-, 2 IN3+, 3 GND, 4 VS, 5 A0, 6 SCL, 7 SDA, 8 WAR, 9 CRI, 10 PV, 11 IN1-, 12 IN1+, 13 TC, 14 IN2-, 15 IN2+, 16 VPU

## SEN; MAX30102EFD+T; SMD
designator IC?, comment SENSOR - OXIMETER/HEART RATE I2C  (value not drawn)
Pulse Oximeter and Heart-Rate Sensor 14-Pin OLGA T/R; Manufacturer: Maxim; Manufacturer Part Number: MAX30102EFD+T; Designer: TVBac; Supplier: Digikey; Supplier Part Number: MAX30102EFD+TCT-ND; RoHS: Yes; Category: Sensors; Stock: 7972; Pricing: 1=14.19, 10=10.087, 25=9.0304, 100=7.8506, 250=7.27936, 500=6.93162, 1000=6.7625, 5000=6.7625 (USD); Min Operating Temperature: -40°C; Max Operating Temperature: 85°C; Output Type: I2C; Series: -; Packaging: Cut Tape; RoHS Compliant: Yes; ComponentLink1URL: https://datasheets.maximintegrated.com/en/ds/MAX30102.pdf?src-supplier=Digikey; ComponentLink1Description: https://datasheets.maximintegrated.com/en/ds/MAX30102.pdf?src-supplier=Digikey; ComponentLink2Description: Link Digikey; ComponentLink2URL: https://www.digikey.com/en/products/detail/analog-devices-inc-maxim-integrated/MAX30102EFD-T/6188734
footprint OLGA-14
pins: 1 NC, 2 SCL, 3 SDA, 4 PGND, 5 R_DRV, 6 IR_DRV, 7 NC, 8 NC, 9 VLED+, 10 VLED+, 11 VDD, 12 GND, 13 ~{INT}, 14 NC
text: SENSOR; LED

## SEN; MIC; I2S; INMP441ACEZ-R7
designator IC?, comment https://www.digikey.com/en/products/detail/tdk-invensense/INMP441ACEZ-R7/2606606  (value not drawn)
60Hz ~ 15kHz Digital, I²S Microphone MEMS (Silicon) 1.62V ~ 3.63V Omnidirectional (-26dB Â±3dB @ 94dB SPL) Solder Pads; MF: TDK InvenSense; Designer: TVBac; MP: INMP441ACEZ-R7; Package: QFN-24 InvenSense; SnapEDA_Link: https://www.snapeda.com/parts/INMP441ACEZ-R7/TDK%20InvenSense/view-part/76082/?ref=snap; Availability: Bad; Price: None; Value: *; Check_prices: https://www.snapeda.com/parts/INMP441ACEZ-R7/TDK%20InvenSense/view-part/76082/?ref=eda; ComponentLink1Description: Link Digikey; ComponentLink1URL: https://www.digikey.com/en/products/detail/tdk-invensense/INMP441ACEZ-R7/2606606
footprint LGA-9
pins: 1 SCK, 2 SD, 3 WS, 4 L/R, 5 GND, 6 GND, 7 VDD, 8 CHIPEN, 9 GND

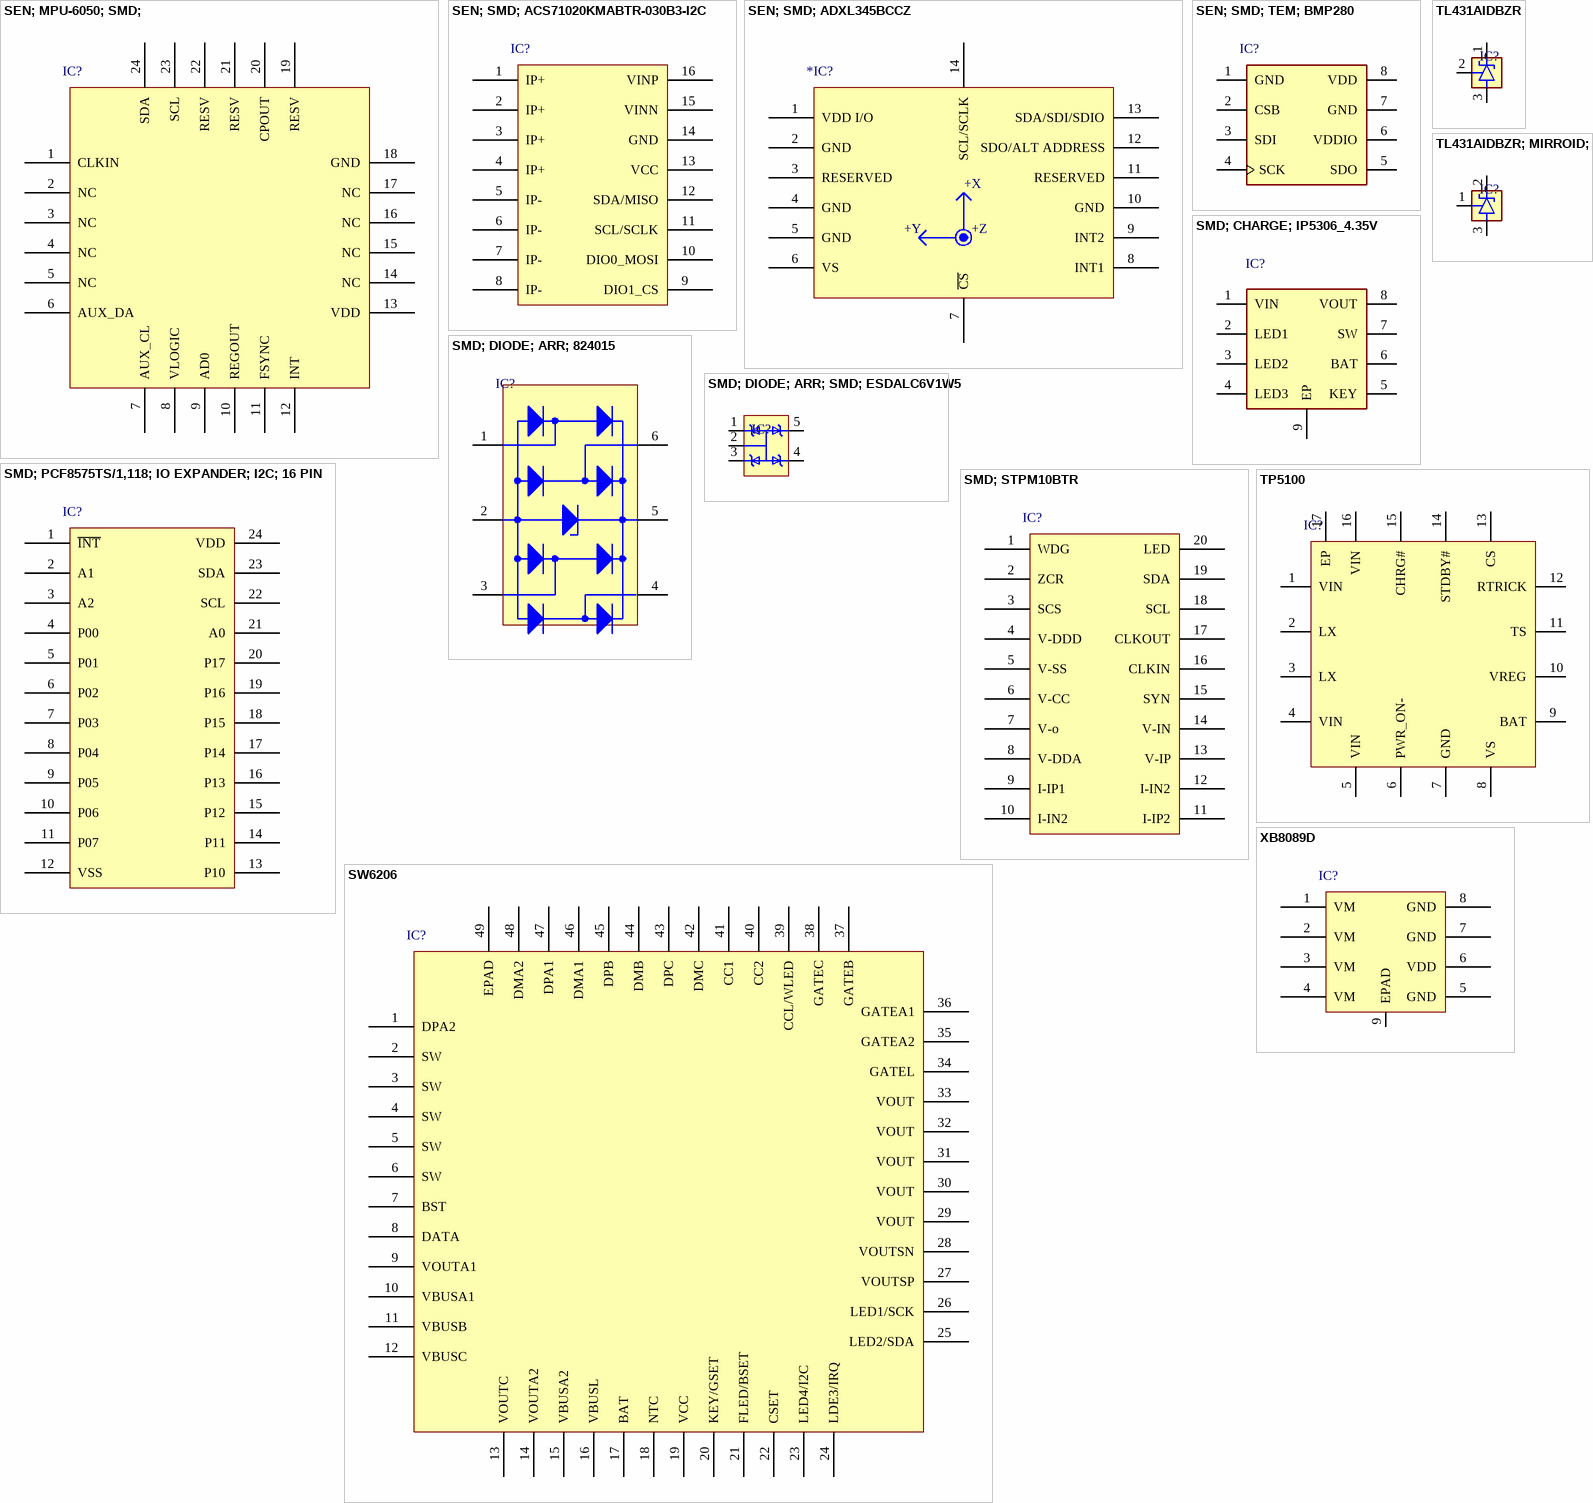
[diagram p4: symbols SEN; MPU-6050; SMD; to XB8089D]

## SEN; MPU-6050; SMD;
designator IC?, comment Accelerometer, Gyroscope, 6 Axis Sensor I2C Output  (value not drawn)
MPU-6050 series Accelerometer, Gyroscope, 3 Axis Sensor Evaluation Board; MF: TDK InvenSense; Designer: TVBac; SnapEDA_Link: https://www.snapeda.com/parts/MPU-6050/TDK+InvenSense/view-part/?ref=snap; Package: QFN-24 InvenSense; Value: *; MP: MPU-6050; Check_prices: https://www.snapeda.com/parts/MPU-6050/TDK+InvenSense/view-part/?ref=eda; ComponentLink1Description: Link Datasheet; ComponentLink1URL: https://invensense.tdk.com/wp-content/uploads/2015/02/MPU-6000-Datasheet1.pdf; ComponentLink2Description: Link Digikey; ComponentLink2URL: https://www.digikey.kr/en/products/detail/tdk-invensense/MPU-6050/4038009
footprint QFN-24
pins: 1 CLKIN, 2 NC, 3 NC, 4 NC, 5 NC, 6 AUX_DA, 7 AUX_CL, 8 VLOGIC, 9 AD0, 10 REGOUT, 11 FSYNC, 12 INT, 13 VDD, 14 NC, 15 NC, 16 NC, 17 NC, 18 GND, 19 RESV, 20 CPOUT, 21 RESV, 22 RESV, 23 SCL, 24 SDA

## SEN; SMD; ACS71020KMABTR-030B3-I2C
designator IC?, comment Controller, ACDC Switching Power Supplies PMIC 16-SOIC  (value not drawn)
Current Sensor Current Sensor AC/DC Current 3.3V 16-Pin SOIC W T/R; Manufacturer: Allegro MicroSystems; Manufacturer Part Number: ACS71020KMABTR-030B3-I2C; Operating Supply Current: 12mA; Interface: 39Interface; Bandwidth: 8kHz; Isolation Voltage: 4.8kV; Max Supply Voltage: 3.63V; Min Supply Voltage: 2.97V; Designer: TVBac; Supplier: Digikey; Supplier Part Number: 620-1996-1-ND; RoHS: Yes; Category: Power Management ICs; Stock: 10687; Pricing: 1=7.76, 5=6.542, 10=6.078, 25=5.516, 50=5.126, 100=4.7638, 500=4.019, 1000=3.50625 (USD); Mounting Technology: Surface Mount; Case/Package: SOIC; Pins: 16; Min Operating Temperature: -40°C; Max Operating Temperature: 125°C; Packaging: Cut Tape; Series: -; Nominal Supply Current: 12mA; Nominal Supply Voltage (DC): 3.3V; Height: 2.65mm; RoHS Compliant: Yes; ComponentLink1URL: https://www.allegromicro.com/~/media/Files/Datasheets/ACS71020-Datasheet.ashx?src-supplier=Digikey; ComponentLink1Description: https://www.allegromicro.com/~/media/Files/Datasheets/ACS71020-Datasheet.ashx?src-supplier=Digikey; ComponentLink2Description: Link Datasheet; ComponentLink2URL: https://mm.digikey.com/Volume0/opasdata/d220001/medias/docus/328/ACS71020.pdf; ComponentLink3Description: Link Digikey; ComponentLink3URL: https://www.digikey.kr/en/products/detail/allegro-microsystems/ACS71020KMABTR-030B3-I2C/9553633
footprint SOICW-16
pins: 1 IP+, 2 IP+, 3 IP+, 4 IP+, 5 IP-, 6 IP-, 7 IP-, 8 IP-, 9 DIO1_CS, 10 DIO0_MOSI, 11 SCL/SCLK, 12 SDA/MISO, 13 VCC, 14 GND, 15 VINN, 16 VINP

## SEN; SMD; ADXL345BCCZ
designator *IC?, comment Accelerometer X, Y, Z Axis ±2g, 4g, 8g, 16g 0.05Hz ~ 1.6kHz 14-LGA (3x5)  (value not drawn)
Analog Devices - ADXL345BCCZ - Mems Accelerometer, 3-AXIS, Digital, X, Y, Z, ± 2G, ± 4G, ± 8G, ± 16G, 2 V, 3.6 V, LGA; Max Supply Voltage: 3.6V; Min Supply Voltage: 2V; Nominal Supply Current: 140uA; Operating Supply Current: 145uA; Axis: X, Y, Z; Sensitivity: 256LSB/g; Designer: TVBac; Supplier: Digikey; Supplier Part Number: 505-ADXL345BCCZ-ND; Manufacturer: Analog Devices; Manufacturer Part Number: ADXL345BCCZ; RoHS: Yes; Category: Accelerometers; Stock: 26265; Pricing: 1=8.76, 5=7.384, 10=6.862, 25=6.2276, 40=5.9255, 157=5.12803, 471=4.56628, 1099=4.17569 (USD); Case/Package: LGA; Pins: 14; Contact Plating: Gold; Min Operating Temperature: -40°C; Max Operating Temperature: 85°C; Package Quantity: 490; Bandwidth: 0.05Hz; -3db Bandwidth: 1.6kHz; Packaging: Tray; Output Type: Digital; Series: -; Supply Current: 140uA; Length: 5mm; Width: 3mm; Height: 0.98mm; Depth: 3mm; Radiation Hardening: No; Reach SVHC Compliant: No; Lead Free: Contains Lead; RoHS Compliant: Yes; ComponentLink1URL: https://datasheet.ciiva.com/5786/adxl345-5786432.pdf?src-supplier=Farnell; ComponentLink1Description: https://datasheet.ciiva.com/5786/adxl345-5786432.pdf?src-supplier=Farnell; ComponentLink2URL: https://datasheet.ciiva.com/15099/getdatasheetpartid-112906-15099657.pdf?src-supplier=Verical; ComponentLink2Description: https://datasheet.ciiva.com/15099/getdatasheetpartid-112906-15099657.pdf?src-supplier=Verical; ComponentLink3URL: https://datasheet.ciiva.com/1577/adxl345-1577555.pdf?src-supplier=Farnell; ComponentLink3Description: https://datasheet.ciiva.com/1577/adxl345-1577555.pdf?src-supplier=Farnell; ComponentLink4URL: https://datasheet.ciiva.com/1165/1793774-1165508.pdf?src-supplier=Element14; ComponentLink4Description: https://datasheet.ciiva.com/1165/1793774-1165508.pdf?src-supplier=Element14; ComponentLink5URL: https://datasheet.ciiva.com/1165/1793774-1165507.pdf?src-supplier=Element14; ComponentLink5Description: https://datasheet.ciiva.com/1165/1793774-1165507.pdf?src-supplier=Element14; ComponentLink6URL: https://datasheet.ciiva.com/3271/adxl345-ep-3271527.pdf?src-supplier=Avnet; ComponentLink6Description: https://datasheet.ciiva.com/3271/adxl345-ep-3271527.pdf?src-supplier=Avnet; ComponentLink7Description: Link Digikey; ComponentLink7URL: https://www.digikey.com/en/products/detail/analog-devices-inc/ADXL345BCCZ/2034829
footprint LGA-14 (3x5)
pins: 1 VDD I/O, 2 GND, 3 RESERVED, 4 GND, 5 GND, 6 VS, 7 ~{CS}, 8 INT1, 9 INT2, 10 GND, 11 RESERVED, 12 SDO/ALT ADDRESS, 13 SDA/SDI/SDIO, 14 SCL/SCLK
text: +X; +Y; +Z

## SEN; SMD; TEM; BMP280
designator IC?, comment Pressure Sensor 4.35PSI ~ 15.95PSI (30kPa ~ 110kPa) Absolute 16b 8-SMD  (value not drawn)
BMP280 Absolute Barometric Pressure Sensor for Battery Powered Devices 2 x 2.5mm; Designer: TVBac; Package: None; Availability: Unavailable; MP: BMP280; Value: *; Price: None; ComponentLink1Description: Link Digikey; ComponentLink1URL: https://www.digikey.com/en/products/detail/bosch-sensortec/BMP280/6136307
footprint SMD-8
pins: 1 GND (power), 2 CSB, 3 SDI, 4 SCK, 5 SDO, 6 VDDIO (power), 7 GND (power), 8 VDD (power)

## SMD; CHARGE; IP5306_4.35V
designator IC?, comment IP5306_4.35V  (value not drawn)
2.1A Charging 2.4 A Discharge Highly Integrated Mobile Power Supply; Manufacturer_Name: INJOINIC; Geometry.Height: 1.65mm; Designer: TVBac; Manufacturer_Part_Number: IP5306_4.35V; Mouser Part Number: *; Mouser Price/Stock: *; Arrow Part Number: *; Arrow Price/Stock: *; Datasheet Link: https://datasheet.lcsc.com/szlcsc/1906271838_INJOINIC-IP5306-4-35V_C384572.pdf
footprint ESOP-8
pins: 1 VIN, 2 LED1, 3 LED2, 4 LED3, 5 KEY, 6 BAT, 7 SW, 8 VOUT, 9 EP

## SMD; DIODE; ARR; 824015
designator IC?, comment 8.2V (Typ) Clamp 4A (8/20µs) Ipp Tvs Diode Surface Mount SOT-23-6L  (value not drawn)
TVS Diode Array WE-TVS 4-Ch+VDD 5V SOT23 | Wurth Electronics 824015; Manufacturer Part Number: 824015; Direction: Unidirectional; Value: 2pF; Polarity: Bidirectional; Number of Bidirectional Channels: 4; Min Breakdown Voltage: 6V; Clamping Voltage: 7.8V; Power Line Protection: Yes; Max Breakdown Voltage: 6.1V; Max Reverse Leakage Current: 5A; Test Current: 1mA; Max Surge Current: 12A; Forward Voltage: 700mV; Leakage Current: 5uA; Designer: TVBac; Supplier: Digikey; Supplier Part Number: 732-4467-1-ND; Manufacturer: Wurth Electronics; RoHS: Yes; Category: TVS Diodes; Stock: 42741; Pricing: 1=0.9, 10=0.859, 50=0.802, 100=0.745, 500=0.659 (USD); Mounting Technology: Surface Mount; Case/Package: SOT-23; Pins: 6; Min Operating Temperature: -55°C; Max Operating Temperature: 125°C; Package Quantity: 1; Packaging: Tape and Reel; Reverse Standoff Voltage: 5V; ESD Protection: Yes; Breakdown Voltage: 6.1V; Termination: SMD/SMT; Number of Channels: 4; Working Voltage: 5V; Operating Supply Voltage: 6V; Peak Pulse Current: 4A; Series: WE-TVS; Number of Unidirectional Channels: 4; Length: 2.9mm; Width: 2.8mm; Height: 1.16mm; RoHS Compliant: Yes; Reach SVHC Compliant: Unknown; ComponentLink1URL: https://datasheet.ciiva.com/15063/824015-15063920.pdf?src-supplier=Digikey; ComponentLink1Description: https://datasheet.ciiva.com/15063/824015-15063920.pdf?src-supplier=Digikey; ComponentLink2URL: https://datasheet.ciiva.com/26308/824015-eng-tds-26308060.pdf?src-supplier=Distrelec; ComponentLink2Description: https://datasheet.ciiva.com/26308/824015-eng-tds-26308060.pdf?src-supplier=Distrelec; ComponentLink3Description: Link Digikey; ComponentLink3URL: https://www.digikey.com/en/products/detail/w%C3%BCrth-elektronik/824015/3900539
footprint SOT-23-6
pins: 1 I/O 1, 2 GND, 3 I/O 2, 4 I/O 3, 5 VDD, 6 I/O 4

## SMD; DIODE; ARR; SMD; ESDALC6V1W5
designator IC?, comment Clamp Ipp Tvs Diode Surface Mount SOT-323-5  (value not drawn)
ESDALC Series 4 Channel 6.1V Uni-Directional Transil ESD Protection SOT-323-5L; Manufacturer: STMicroelectronics; Manufacturer Part Number: ESDALC6V1W5; Designer: TVBac; Supplier: Future Electronics; Supplier Part Number: 4034824; RoHS: Yes; Category: TVS Diodes; Stock: 2184000; Pricing: 3000=0.0733, 6000=0.0714, 12000=0.0696, 15000=0.0691, 45000=0.0656 (USD); ComponentLink1URL: https://datasheet.ciiva.com/23847/cd00002946-23847220.pdf?src-supplier=Newark; ComponentLink1Description: https://datasheet.ciiva.com/23847/cd00002946-23847220.pdf?src-supplier=Newark; ComponentLink2URL: https://datasheet.ciiva.com/5782/cd00002946-5782886.pdf?src-supplier=Farnell; ComponentLink2Description: https://datasheet.ciiva.com/5782/cd00002946-5782886.pdf?src-supplier=Farnell; ComponentLink3URL: https://datasheet.ciiva.com/338/cd00002946-338376.pdf?src-supplier=Digikey; ComponentLink3Description: https://datasheet.ciiva.com/338/cd00002946-338376.pdf?src-supplier=Digikey; ComponentLink4URL: https://datasheet.ciiva.com/338/cd00002946-338377.pdf?src-supplier=Digikey; ComponentLink4Description: https://datasheet.ciiva.com/338/cd00002946-338377.pdf?src-supplier=Digikey; ComponentLink5URL: https://datasheet.ciiva.com/338/cd00002946-338378.pdf?src-supplier=Digikey; ComponentLink5Description: https://datasheet.ciiva.com/338/cd00002946-338378.pdf?src-supplier=Digikey; ComponentLink6Description: Link Digikey; ComponentLink6URL: https://www.digikey.com/en/products/detail/stmicroelectronics/ESDALC6V1W5/1037997
footprint SOT323-5L
pins: 1 I/01, 2 GND (power), 3 I/02, 4 I/03, 5 I/04

## SMD; PCF8575TS/1,118; IO EXPANDER; I2C; 16 PIN
designator IC?, comment I/O Expander 16 I2C 400 kHz 24-SSOP  (value not drawn)
PCF8575 Series Remote 16-bit I/O Expander for I2C-Bus to Parallel Port -SSOP-24; Manufacturer: NXP Semiconductors; Manufacturer Part Number: PCF8575TS/1,118; Output Current: 25mA; Max Power Dissipation: 400mW; Number of I/Os: 16; Frequency: 400kHz; Nominal Supply Voltage: 5.5V; Supply Current: 100uA; Designer: TVBac; Supplier: Digikey; Supplier Part Number: 568-1079-1-ND; RoHS: Yes; Category: Interface ICs; Stock: 5798; Pricing: 1=2.98, 10=2.676, 25=2.5248, 100=2.1511, 250=2.0198, 500=1.76732 (USD); Case/Package: SSOP; Pins: 24; Weight: 0.007764oz; Min Operating Temperature: -40°C; Max Operating Temperature: 85°C; Packaging: Tape and Reel; Interface: I2C; Clock Frequency: 400kHz; Radiation Hardening: No; Lead Free: Lead Free; RoHS Compliant: Yes; ComponentLink1URL: https://datasheet.ciiva.com/1780/pcf8575-1780080.pdf?src-supplier=Digikey; ComponentLink1Description: https://datasheet.ciiva.com/1780/pcf8575-1780080.pdf?src-supplier=Digikey; ComponentLink2URL: https://datasheet.ciiva.com/3148/pcf8584-3148528.pdf?src-supplier=Avnet; ComponentLink2Description: https://datasheet.ciiva.com/3148/pcf8584-3148528.pdf?src-supplier=Avnet; ComponentLink3URL: https://datasheet.ciiva.com/4826/pcf8575-56328-4826344.pdf?src-supplier=Mouser; ComponentLink3Description: https://datasheet.ciiva.com/4826/pcf8575-56328-4826344.pdf?src-supplier=Mouser; ComponentLink4Description: Link Digikey; ComponentLink4URL: https://www.digikey.kr/en/products/detail/nxp-usa-inc/PCF8575TS-1-118/735693?s=N4IgjCBcpgrALFUBjKAzAhgGwM4FMAaEAeygG0QBmWANgE4wAOEAXSIAcAXKEAZU4BOASwB2AcxABfIgFoATEhCpIggK6ES5ELFbSQMmouVqNpSBQUtJeheZAAFAMIAxRrADssAAS6gA
footprint SSOP-24
pins: 1 ~{INT}, 2 A1, 3 A2, 4 P00, 5 P01, 6 P02, 7 P03, 8 P04, 9 P05, 10 P06, 11 P07, 12 VSS, 13 P10, 14 P11, 15 P12, 16 P13, 17 P14, 18 P15, 19 P16, 20 P17, 21 A0, 22 SCL, 23 SDA, 24 VDD

## SMD; STPM10BTR
designator IC?, comment Single Phase Meter IC 20-TSSOP  (value not drawn)
Afe 2 Adc 3.3V/5V 20-PIN TSSOP T/r / IC Energy Meter 1 Phase 20TSSOP; Manufacturer: STMicroelectronics; Manufacturer Part Number: STPM10BTR; Designer: TVBac; Supplier: Digikey; Supplier Part Number: 497-11291-1-ND; RoHS: Yes; Category: Analog to Digital Converters (ADCs); Stock: 2668; Pricing: 1=2.89, 10=2.599, 25=2.4572, 100=2.1294, 250=2.02024, 500=1.81274, 1000=1.52882 (USD); ComponentLink1URL: https://datasheet.ciiva.com/4897/cd00278872-117195-4897004.pdf?src-supplier=Mouser; ComponentLink1Description: https://datasheet.ciiva.com/4897/cd00278872-117195-4897004.pdf?src-supplier=Mouser; ComponentLink2URL: https://datasheet.ciiva.com/16491/cd00278872-16491701.pdf?src-supplier=Future+Electronics; ComponentLink2Description: https://datasheet.ciiva.com/16491/cd00278872-16491701.pdf?src-supplier=Future+Electronics; ComponentLink3URL: https://datasheet.ciiva.com/1941/cd00278872-1941441.pdf?src-supplier=Digikey; ComponentLink3Description: https://datasheet.ciiva.com/1941/cd00278872-1941441.pdf?src-supplier=Digikey; ComponentLink4URL: https://datasheet.ciiva.com/1941/cd00278872-1941442.pdf?src-supplier=Digikey; ComponentLink4Description: https://datasheet.ciiva.com/1941/cd00278872-1941442.pdf?src-supplier=Digikey; ComponentLink5URL: https://datasheet.ciiva.com/1941/cd00278872-1941443.pdf?src-supplier=Digikey; ComponentLink5Description: https://datasheet.ciiva.com/1941/cd00278872-1941443.pdf?src-supplier=Digikey; ComponentLink6Description: Link Digikey; ComponentLink6URL: https://www.digikey.com/en/products/detail/stmicroelectronics/STPM10BTR/2672697
footprint TSSOP-20
pins: 1 WDG, 2 ZCR, 3 SCS, 4 V-DDD, 5 V-SS, 6 V-CC, 7 V-o, 8 V-DDA, 9 I-IP1, 10 I-IN2, 11 I-IP2, 12 I-IN2, 13 V-IP, 14 V-IN, 15 SYN, 16 CLKIN, 17 CLKOUT, 18 SCL, 19 SDA, 20 LED

## SW6206
designator IC?  (value not drawn)
footprint QFN-48-SW6206
pins: 1 DPA2, 2 SW, 3 SW, 4 SW, 5 SW, 6 SW, 7 BST, 8 DATA, 9 VOUTA1, 10 VBUSA1, 11 VBUSB, 12 VBUSC, 13 VOUTC, 14 VOUTA2, 15 VBUSA2, 16 VBUSL, 17 BAT, 18 NTC, 19 VCC, 20 KEY/GSET, 21 FLED/BSET, 22 CSET, 23 LED4/I2C, 24 LDE3/IRQ, 25 LED2/SDA, 26 LED1/SCK, 27 VOUTSP, 28 VOUTSN, 29 VOUT, 30 VOUT, 31 VOUT, 32 VOUT, 33 VOUT, 34 GATEL, 35 GATEA2, 36 GATEA1, 37 GATEB, 38 GATEC, 39 CCL/WLED, 40 CC2, 41 CC1, 42 DMC, 43 DPC, 44 DMB, 45 DPB, 46 DMA1, 47 DPA1, 48 DMA2, 49 EPAD